# Altium schematic symbol library 电源开关.SchLib: 8 symbols
Pins are listed as number, name and electrical type; pins without a type are passive.

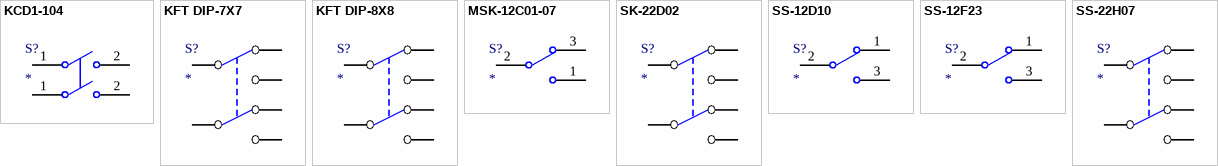
[diagram p0: symbols KCD1-104 to SS-22H07]

## KCD1-104
designator S?
pins: 1, 1, 2, 2

## KFT DIP-7X7
designator S?
pins: 1, 2, 3, 4, 5, 6

## KFT DIP-8X8
designator S?
pins: 1, 2, 3, 4, 5, 6

## MSK-12C01-07
designator S?
pins: 1, 2, 3

## SK-22D02
designator S?
pins: 1, 2, 3, 4, 5, 6

## SS-12D10
designator S?
pins: 1, 2, 3

## SS-12F23
designator S?
pins: 1, 2, 3

## SS-22H07
designator S?
pins: 1, 2, 3, 4, 5, 6